# EAGLE library part AFE4400 (library Neel)
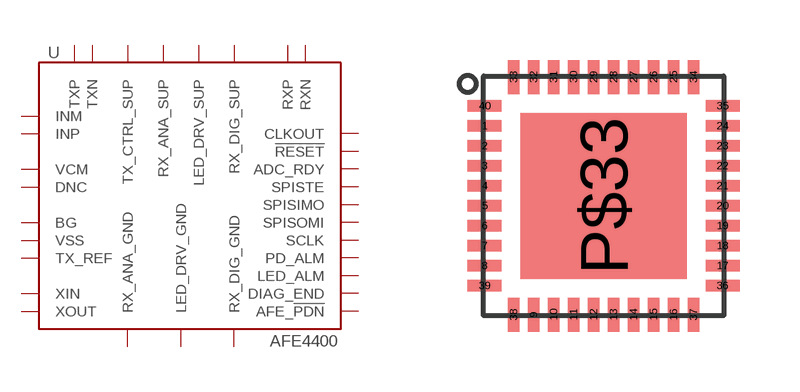
[diagram p74: symbol with the pads of QFN-40; footprint QFN-40]

Designator prefix -

## AFE4400  [QFN-40]
1  INM
2  INP
3  RX_ANA_GND
4  VCM
5  DNC
6  DNC
7  BG
8  VSS
9  TX_REF
10  DNC
11  TX_CTRL_SUP
12  LED_DRV_GND
13  LED_DRV_GND
14  TXN
15  TXP
16  LED_DRV_GND
17  LED_DRV_SUP
18  LED_DRV_SUP
19  RX_DIG_GND
20  AFE_!PDN
21  DIAG_END
22  LED_ALM
23  PD_ALM
24  SCLK
25  SPISOMI
26  SPISIMO
27  SPISTE
28  ADC_RDY
29  !RESET
30  CLKOUT
31  RX_DIG_SUP
32  RX_DIG_GND
33  RX_ANA_SUP
34  RXN
35  RXP
36  RX_ANA_GND
37  XOUT
38  XIN
39  RX_ANA_SUP
40  RX_ANA_GND
P$33  RX_DIG_GND

## Footprint QFN-40 (pad centres in mm)
smd 0.85 x 0.28: 1 -2.975,1.75; 2 -2.975,1.25; 3 -2.975,0.75; 4 -2.975,0.25; 5 -2.975,-0.25; 6 -2.975,-0.75; 7 -2.975,-1.25; 8 -2.975,-1.75; 17 2.975,-1.75; 18 2.975,-1.25; 19 2.975,-0.75; 20 2.975,-0.25; 21 2.975,0.25; 22 2.975,0.75; 23 2.975,1.25; 24 2.975,1.75; 35 2.975,2.25; 36 2.975,-2.25; 39 -2.975,-2.25; 40 -2.975,2.25
smd 0.28 x 0.85: 9 -1.75,-2.975; 10 -1.25,-2.975; 11 -0.75,-2.975; 12 -0.25,-2.975; 13 0.25,-2.975; 14 0.75,-2.975; 15 1.25,-2.975; 16 1.75,-2.975; 25 1.75,2.975; 26 1.25,2.975; 27 0.75,2.975; 28 0.25,2.975; 29 -0.25,2.975; 30 -0.75,2.975; 31 -1.25,2.975; 32 -1.75,2.975; 33 -2.25,2.975; 34 2.25,2.975; 37 2.25,-2.975; 38 -2.25,-2.975
smd 4.15 x 4.15: P$33 0,0